# Altium schematic symbol library ADM13307-SMD8P.Schlib: 1 symbol
Pins are listed as number, name and electrical type; pins without a type are passive.

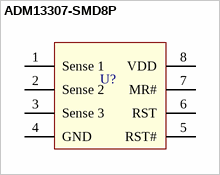
[diagram p0: symbol ADM13307-SMD8P]

## ADM13307-SMD8P
designator U?  (value not drawn)
pins: 1 Sense 1, 2 Sense 2, 3 Sense 3, 4 GND, 5 RST#, 6 RST, 7 MR#, 8 VDD